# Altium footprint library EBF6ULL B1.PcbLib: 18 footprints (part 1 of 2)
Each footprint in its own frame and in the unit in brackets; x right, y up, seen from the top. Pads: shape width x height; smd on the part's side, far side on the other; paste and mask are expansions set on the pad; w line width, h text height; cw(c..) or ccw(c..) is an arc to the next point about the centre after c.
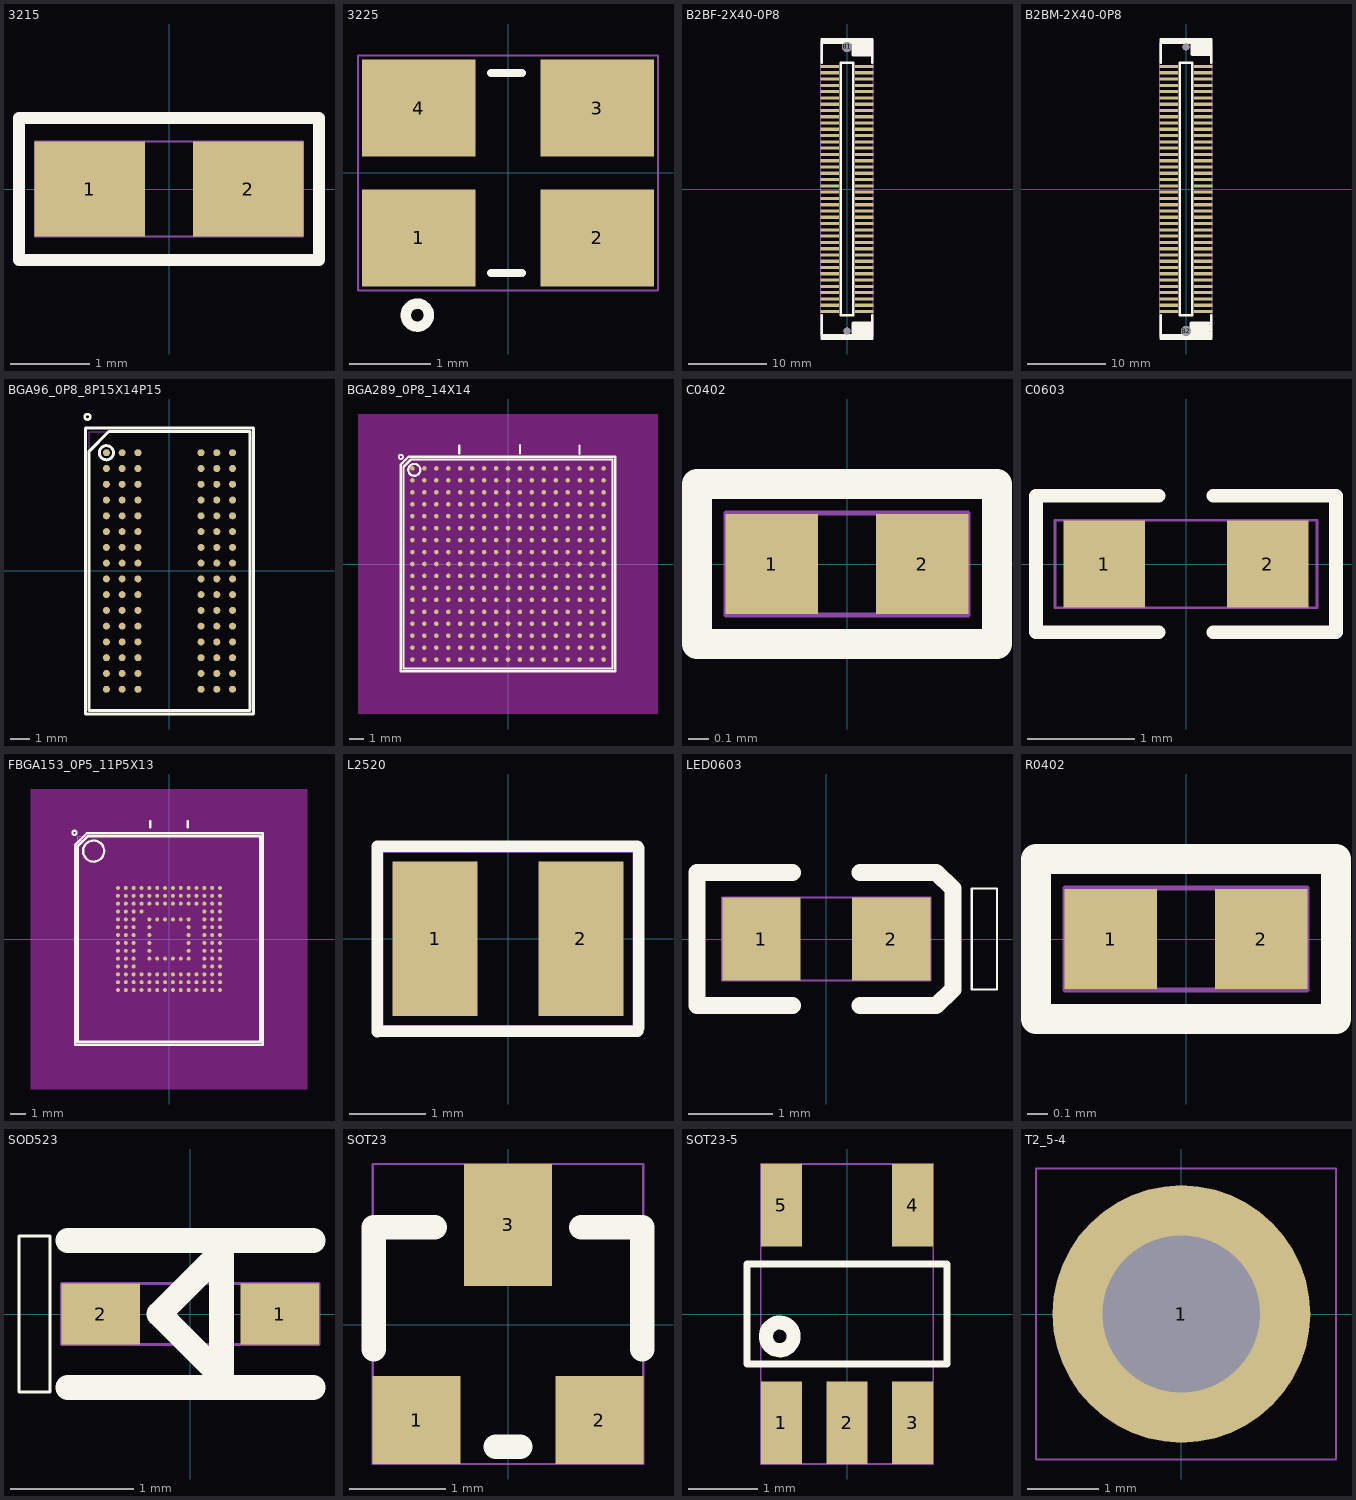
[diagram p0: the footprints below, top view; thin cyan lines are the x and y axes]

## 3215 [mil]
pads (2):
  rect 55.1x47.2 smd mask+2: 1(-39.4,0) 2(39.4,0)
Top Overlay:
  lines w5.9: -74.8,-35.4 -74.8,35.4 74.8,35.4 74.8,-35.4 -74.8,-35.4
Top Assembly:
  text "Y2" at -38.97,-25.04 h50
Mechanical 20:
  lines w1: -66.9,-23.6 -66.9,23.6 66.9,23.6 66.9,-23.6 -66.9,-23.6

## 3225 [mil]
pads (4):
  rect 55.1x47.2 smd mask+2: 1(-43.3,-31.5) 2(43.3,-31.5) 3(43.3,31.5) 4(-43.3,31.5)
Top Overlay:
  circle w5: c-44,-69 r5.6
  lines w3.9: -8.3,-48.5 6.7,-48.5 ; -8.3,48.5 6.7,48.5
Top Assembly:
  text "Y1" at -28.26,-25.04 h50
Mechanical 20:
  lines w1: -72.8,-57.1 72.8,-57.1 72.8,57.1 -72.8,57.1 -72.8,-57.1

## B2BF-2X40-0P8 [mil]
pads (82):
  rect 90.6x15.8 smd mask+1.95: 1(-86.6,614.2) 2(86.6,614.2) 3(-86.6,582.7) 4(86.6,582.7) 5(-86.6,551.2) 6(86.6,551.2) 7(-86.6,519.7) 8(86.6,519.7) 9(-86.6,488.2) 10(86.6,488.2) 11(-86.6,456.7) 12(86.6,456.7) 13(-86.6,425.2) 14(86.6,425.2) 15(-86.6,393.7) 16(86.6,393.7) 17(-86.6,362.2) 18(86.6,362.2) 19(-86.6,330.7) 20(86.6,330.7) 21(-86.6,299.2) 22(86.6,299.2) 23(-86.6,267.7) 24(86.6,267.7) 25(-86.6,236.2) 26(86.6,236.2) 27(-86.6,204.7) 28(86.6,204.7) 29(-86.6,173.2) 30(86.6,173.2) 31(-86.6,141.7) 32(86.6,141.7) 33(-86.6,110.2) 34(86.6,110.2) 35(-86.6,78.7) 36(86.6,78.7) 37(-86.6,47.2) 38(86.6,47.2) 39(-86.6,15.8) 40(86.6,15.8) 41(-86.6,-15.8) 42(86.6,-15.8) 43(-86.6,-47.2) 44(86.6,-47.2) 45(-86.6,-78.7) 46(86.6,-78.7) 47(-86.6,-110.2) 48(86.6,-110.2) 49(-86.6,-141.7) 50(86.6,-141.7) 51(-86.6,-173.2) 52(86.6,-173.2) 53(-86.6,-204.7) 54(86.6,-204.7) 55(-86.6,-236.2) 56(86.6,-236.2) 57(-86.6,-267.7) 58(86.6,-267.7) 59(-86.6,-299.2) 60(86.6,-299.2) 61(-86.6,-330.7) 62(86.6,-330.7) 63(-86.6,-362.2) 64(86.6,-362.2) 65(-86.6,-393.7) 66(86.6,-393.7) 67(-86.6,-425.2) 68(86.6,-425.2) 69(-86.6,-456.7) 70(86.6,-456.7) 71(-86.6,-488.2) 72(86.6,-488.2) 73(-86.6,-519.7) 74(86.6,-519.7) 75(-86.6,-551.2) 76(86.6,-551.2) 77(-86.6,-582.7) 78(86.6,-582.7) 79(-86.6,-614.2) 80(86.6,-614.2)
  round 51.2 hole 51.2 unplated mask+1.95: 81(0,712.6)
  round 35.4 hole 35.4 unplated mask+2.5: 82(0,-712.6)
Top Overlay:
  lines w12: -126,-633.9 -126,-752 126,-752 126,-633.9 ; -126,633.9 -126,752 126,752 126,633.9 ; -31.5,-633.9 31.5,-633.9 31.5,633.9 -31.5,633.9 -31.5,-633.9
  lines w19.7: -118.1,-736.2 118.1,-736.2 ; -118.1,736.2 118.1,736.2 ; 31.9,-720.5 118.5,-720.5 ; 31.9,-704.7 118.5,-704.7 ; 31.9,-689 118.5,-689 ; 31.9,-673.2 118.5,-673.2 ; 31.9,673.2 118.5,673.2 ; 31.9,689 118.5,689 ; 31.9,704.7 118.5,704.7 ; 31.9,720.5 118.5,720.5 ; 33.5,-720.5 33.5,-673.2 ; 33.5,673.2 33.5,720.5
Top Assembly:
  text "CN2" at -65.16,-25.04 h50
Mechanical 20:
  lines w1: -131.9,-730.3 -131.9,738.2 131.9,738.2 131.9,-730.3 -131.9,-730.3

## B2BM-2X40-0P8 [mil]
pads (82):
  rect 90.6x15.8 smd mask+1.95: 1(86.6,614.2) 2(-86.6,614.2) 3(86.6,582.7) 4(-86.6,582.7) 5(86.6,551.2) 6(-86.6,551.2) 7(86.6,519.7) 8(-86.6,519.7) 9(86.6,488.2) 10(-86.6,488.2) 11(86.6,456.7) 12(-86.6,456.7) 13(86.6,425.2) 14(-86.6,425.2) 15(86.6,393.7) 16(-86.6,393.7) 17(86.6,362.2) 18(-86.6,362.2) 19(86.6,330.7) 20(-86.6,330.7) 21(86.6,299.2) 22(-86.6,299.2) 23(86.6,267.7) 24(-86.6,267.7) 25(86.6,236.2) 26(-86.6,236.2) 27(86.6,204.7) 28(-86.6,204.7) 29(86.6,173.2) 30(-86.6,173.2) 31(86.6,141.7) 32(-86.6,141.7) 33(86.6,110.2) 34(-86.6,110.2) 35(86.6,78.7) 36(-86.6,78.7) 37(86.6,47.2) 38(-86.6,47.2) 39(86.6,15.8) 40(-86.6,15.8) 41(86.6,-15.8) 42(-86.6,-15.8) 43(86.6,-47.2) 44(-86.6,-47.2) 45(86.6,-78.7) 46(-86.6,-78.7) 47(86.6,-110.2) 48(-86.6,-110.2) 49(86.6,-141.7) 50(-86.6,-141.7) 51(86.6,-173.2) 52(-86.6,-173.2) 53(86.6,-204.7) 54(-86.6,-204.7) 55(86.6,-236.2) 56(-86.6,-236.2) 57(86.6,-267.7) 58(-86.6,-267.7) 59(86.6,-299.2) 60(-86.6,-299.2) 61(86.6,-330.7) 62(-86.6,-330.7) 63(86.6,-362.2) 64(-86.6,-362.2) 65(86.6,-393.7) 66(-86.6,-393.7) 67(86.6,-425.2) 68(-86.6,-425.2) 69(86.6,-456.7) 70(-86.6,-456.7) 71(86.6,-488.2) 72(-86.6,-488.2) 73(86.6,-519.7) 74(-86.6,-519.7) 75(86.6,-551.2) 76(-86.6,-551.2) 77(86.6,-582.7) 78(-86.6,-582.7) 79(86.6,-614.2) 80(-86.6,-614.2)
  round 35.4 hole 35.4 unplated mask+2.5: 81(0,712.6)
  round 51.2 hole 51.2 unplated mask+1.95: 82(0,-712.6)
Top Overlay:
  lines w12: -126,-633.9 -126,-752 126,-752 126,-633.9 ; -126,633.9 -126,752 126,752 126,633.9 ; -31.5,-633.9 31.5,-633.9 31.5,633.9 -31.5,633.9 -31.5,-633.9
  lines w19.7: -118.1,-736.2 118.1,-736.2 ; -118.1,736.2 118.1,736.2 ; 27.6,-704.7 114.2,-704.7 ; 27.6,-689 114.2,-689 ; 31.5,692.9 118.1,692.9 ; 31.5,708.7 118.1,708.7 ; 114.2,-720.5 27.6,-720.5 27.6,-673.2 114.2,-673.2 ; 118.1,677.2 31.5,677.2 31.5,724.4 118.1,724.4
Top Assembly:
  text "CN1" at -54.44,-25.04 h50
Mechanical 20:
  lines w1: -131.9,-738.2 131.9,-738.2 131.9,730.3 -131.9,730.3 -131.9,-738.2

## BGA96_0P8_8P15X14P15 [mil]
pads (96):
  round 14 smd mask+2: A1(-126,236.2) A2(-94.5,236.2) A3(-63,236.2) A7(63,236.2) A8(94.5,236.2) A9(126,236.2) B1(-126,204.7) B2(-94.5,204.7) B3(-63,204.7) B7(63,204.7) B8(94.5,204.7) B9(126,204.7) C1(-126,173.2) C2(-94.5,173.2) C3(-63,173.2) C7(63,173.2) C8(94.5,173.2) C9(126,173.2) D1(-126,141.7) D2(-94.5,141.7) D3(-63,141.7) D7(63,141.7) D8(94.5,141.7) D9(126,141.7) E1(-126,110.2) E2(-94.5,110.2) E3(-63,110.2) E7(63,110.2) E8(94.5,110.2) E9(126,110.2) F1(-126,78.7) F2(-94.5,78.7) F3(-63,78.7) F7(63,78.7) F8(94.5,78.7) F9(126,78.7) G1(-126,47.2) G2(-94.5,47.2) G3(-63,47.2) G7(63,47.2) G8(94.5,47.2) G9(126,47.2) H1(-126,15.7) H2(-94.5,15.7) H3(-63,15.7) H7(63,15.7) H8(94.5,15.7) H9(126,15.7) J1(-126,-15.7) J2(-94.5,-15.7) J3(-63,-15.7) J7(63,-15.7) J8(94.5,-15.7) J9(126,-15.7) K1(-126,-47.2) K2(-94.5,-47.2) K3(-63,-47.2) K7(63,-47.2) K8(94.5,-47.2) K9(126,-47.2) L1(-126,-78.7) L2(-94.5,-78.7) L3(-63,-78.7) L7(63,-78.7) L8(94.5,-78.7) L9(126,-78.7) M1(-126,-110.2) M2(-94.5,-110.2) M3(-63,-110.2) M7(63,-110.2) M8(94.5,-110.2) M9(126,-110.2) N1(-126,-141.7) N2(-94.5,-141.7) N3(-63,-141.7) N7(63,-141.7) N8(94.5,-141.7) N9(126,-141.7) P1(-126,-173.2) P2(-94.5,-173.2) P3(-63,-173.2) P7(63,-173.2) P8(94.5,-173.2) P9(126,-173.2) R1(-126,-204.7) R2(-94.5,-204.7) R3(-63,-204.7) R7(63,-204.7) R8(94.5,-204.7) R9(126,-204.7) T1(-126,-236.2) T2(-94.5,-236.2) T3(-63,-236.2) T7(63,-236.2) T8(94.5,-236.2) T9(126,-236.2)
Top Overlay:
  circle w5: c-163.68,307.97 r5.58
  circle w6: c-125.98,236.22 r14.14
  lines w6: -167.4,-285.6 -167.4,246.2 -167.4,285.5 -128.1,285.5 167.4,285.5 167.4,-285.5 -167.4,-285.5 ; -160.4,-278.5 160.4,-278.5 160.4,278.5 -121.1,278.5 -160.4,239.2 -160.4,-278.5
Top Assembly:
  text "U3" at -40.28,-25.04 h50
Mechanical 20:
  lines w1: -160.4,-278.5 160.4,-278.5 160.4,278.5 -160.4,278.5 -160.4,-278.5

## BGA289_0P8_14X14 [mil]
pads (289):
  round 12 smd mask+2: A1(-252,252) A2(-220.5,252) A3(-189,252) A4(-157.5,252) A5(-126,252) A6(-94.5,252) A7(-63,252) A8(-31.5,252) A9(0,252) A10(31.5,252) A11(63,252) A12(94.5,252) A13(126,252) A14(157.5,252) A15(189,252) A16(220.5,252) A17(252,252) B1(-252,220.5) B2(-220.5,220.5) B3(-189,220.5) B4(-157.5,220.5) B5(-126,220.5) B6(-94.5,220.5) B7(-63,220.5) B8(-31.5,220.5) B9(0,220.5) B10(31.5,220.5) B11(63,220.5) B12(94.5,220.5) B13(126,220.5) B14(157.5,220.5) B15(189,220.5) B16(220.5,220.5) B17(252,220.5) C1(-252,189) C2(-220.5,189) C3(-189,189) C4(-157.5,189) C5(-126,189) C6(-94.5,189) C7(-63,189) C8(-31.5,189) C9(0,189) C10(31.5,189) C11(63,189) C12(94.5,189) C13(126,189) C14(157.5,189) C15(189,189) C16(220.5,189) C17(252,189) D1(-252,157.5) D2(-220.5,157.5) D3(-189,157.5) D4(-157.5,157.5) D5(-126,157.5) D6(-94.5,157.5) D7(-63,157.5) D8(-31.5,157.5) D9(0,157.5) D10(31.5,157.5) D11(63,157.5) D12(94.5,157.5) D13(126,157.5) D14(157.5,157.5) D15(189,157.5) D16(220.5,157.5) D17(252,157.5) E1(-252,126) E2(-220.5,126) E3(-189,126) E4(-157.5,126) E5(-126,126) E6(-94.5,126) E7(-63,126) E8(-31.5,126) E9(0,126) E10(31.5,126) E11(63,126) E12(94.5,126) E13(126,126) E14(157.5,126) E15(189,126) E16(220.5,126) E17(252,126) F1(-252,94.5) F2(-220.5,94.5) F3(-189,94.5) F4(-157.5,94.5) F5(-126,94.5) F6(-94.5,94.5) F7(-63,94.5) F8(-31.5,94.5) F9(0,94.5) F10(31.5,94.5) F11(63,94.5) F12(94.5,94.5) F13(126,94.5) F14(157.5,94.5) F15(189,94.5) F16(220.5,94.5) F17(252,94.5) G1(-252,63) G2(-220.5,63) G3(-189,63) G4(-157.5,63) G5(-126,63) G6(-94.5,63) G7(-63,63) G8(-31.5,63) G9(0,63) G10(31.5,63) G11(63,63) G12(94.5,63) G13(126,63) G14(157.5,63) G15(189,63) G16(220.5,63) G17(252,63) H1(-252,31.5) H2(-220.5,31.5) H3(-189,31.5) H4(-157.5,31.5) H5(-126,31.5) H6(-94.5,31.5) H7(-63,31.5) H8(-31.5,31.5) H9(0,31.5) H10(31.5,31.5) H11(63,31.5) H12(94.5,31.5) H13(126,31.5) H14(157.5,31.5) H15(189,31.5) H16(220.5,31.5) H17(252,31.5) J1(-252,0) J2(-220.5,0) J3(-189,0) J4(-157.5,0) J5(-126,0) J6(-94.5,0) J7(-63,0) J8(-31.5,0) J9(0,0) J10(31.5,0) J11(63,0) J12(94.5,0) J13(126,0) J14(157.5,0) J15(189,0) J16(220.5,0) J17(252,0) K1(-252,-31.5) K2(-220.5,-31.5) K3(-189,-31.5) K4(-157.5,-31.5) K5(-126,-31.5) K6(-94.5,-31.5) K7(-63,-31.5) K8(-31.5,-31.5) K9(0,-31.5) K10(31.5,-31.5) K11(63,-31.5) K12(94.5,-31.5) K13(126,-31.5) K14(157.5,-31.5) K15(189,-31.5) K16(220.5,-31.5) K17(252,-31.5) L1(-252,-63) L2(-220.5,-63) L3(-189,-63) L4(-157.5,-63) L5(-126,-63) L6(-94.5,-63) L7(-63,-63) L8(-31.5,-63) L9(0,-63) L10(31.5,-63) L11(63,-63) L12(94.5,-63) L13(126,-63) L14(157.5,-63) L15(189,-63) L16(220.5,-63) L17(252,-63) M1(-252,-94.5) M2(-220.5,-94.5) M3(-189,-94.5) M4(-157.5,-94.5) M5(-126,-94.5) M6(-94.5,-94.5) M7(-63,-94.5) M8(-31.5,-94.5) M9(0,-94.5) M10(31.5,-94.5) M11(63,-94.5) M12(94.5,-94.5) M13(126,-94.5) M14(157.5,-94.5) M15(189,-94.5) M16(220.5,-94.5) M17(252,-94.5) N1(-252,-126) N2(-220.5,-126) N3(-189,-126) N4(-157.5,-126) N5(-126,-126) N6(-94.5,-126) N7(-63,-126) N8(-31.5,-126) N9(0,-126) N10(31.5,-126) N11(63,-126) N12(94.5,-126) N13(126,-126) N14(157.5,-126) N15(189,-126) N16(220.5,-126) N17(252,-126) P1(-252,-157.5) P2(-220.5,-157.5) P3(-189,-157.5) P4(-157.5,-157.5) P5(-126,-157.5) P6(-94.5,-157.5) P7(-63,-157.5) P8(-31.5,-157.5) P9(0,-157.5) P10(31.5,-157.5) P11(63,-157.5) P12(94.5,-157.5) P13(126,-157.5) P14(157.5,-157.5) P15(189,-157.5) P16(220.5,-157.5) P17(252,-157.5) R1(-252,-189) R2(-220.5,-189) R3(-189,-189) R4(-157.5,-189) R5(-126,-189) R6(-94.5,-189) R7(-63,-189) R8(-31.5,-189) R9(0,-189) R10(31.5,-189) R11(63,-189) R12(94.5,-189) R13(126,-189) R14(157.5,-189) R15(189,-189) R16(220.5,-189) R17(252,-189) T1(-252,-220.5) T2(-220.5,-220.5) T3(-189,-220.5) T4(-157.5,-220.5) T5(-126,-220.5) T6(-94.5,-220.5) T7(-63,-220.5) T8(-31.5,-220.5) T9(0,-220.5) T10(31.5,-220.5) T11(63,-220.5) T12(94.5,-220.5) T13(126,-220.5) T14(157.5,-220.5) T15(189,-220.5) T16(220.5,-220.5) T17(252,-220.5) U1(-252,-252) U2(-220.5,-252) U3(-189,-252) U4(-157.5,-252) U5(-126,-252) U6(-94.5,-252) U7(-63,-252) U8(-31.5,-252) U9(0,-252) U10(31.5,-252) U11(63,-252) U12(94.5,-252) U13(126,-252) U14(157.5,-252) U15(189,-252) U16(220.5,-252) U17(252,-252)
Top Layer keep-out:
  region: -395.6,-395.6 395.6,-395.6 395.6,395.6 -395.6,395.6
Top Overlay:
  circle w5: c-282.6,282.6 r5.6
  circle w6: c-247.09,248.26 r15.69
  lines w6: 31.7,292 31.7,313.4 ; 31.7,292.4 31.7,313.7 ; 188.4,290.6 188.4,311.9 ; 188.4,291.3 188.4,312.6 ; -282.6,-282.6 -282.6,262.6 -262.6,282.6 282.6,282.6 282.6,-282.6 -282.6,-282.6 ; -275.6,-275.6 -275.6,255.6 -255.6,275.6 275.6,275.6 275.6,-275.6 -275.6,-275.6 ; -128.3,291.3 -128.3,312.6 -128.3,291.3
Bottom Overlay:
  lines w6: -128.3,291.1 -128.3,312.4 ; 31.7,292.4 31.7,313.7 ; 188.4,290.6 188.4,311.9
Top Assembly:
  text "U2" at -40.28,-25.04 h50
Mechanical 20:
  lines w1: -275.6,-275.6 275.6,-275.6 275.6,275.6 -275.6,275.6 -275.6,-275.6

## C0402 [mil]
pads (2):
  rect 18.1x19.7 smd mask+1.95: 1(-14.8,0) 2(14.8,0)
Top Overlay:
  lines w5.9: -29.5,-15.7 -29.5,15.7 29.5,15.7 29.5,-15.7 -29.5,-15.7
Top Assembly:
  text "C99" at -62.66,-25.04 h50
Mechanical 20:
  lines w1: -23.8,-10 23.8,-10 23.8,10 -23.8,10 -23.8,-10

## C0603 [mil]
pads (2):
  rect 30x32 smd mask+2.5: 1(-30,0) 2(30,0)
Top Overlay:
  lines w5: -10,-25 -55,-25 -55,25 -10,25 ; 10,-25 55,-25 55,25 10,25
Top Assembly:
  text "C9" at -40.4,-25.04 h50
Mechanical 20:
  lines w1: -48,-16 -48,16 48,16 48,-16 -48,-16

## FBGA153_0P5_11P5X13 [mil]
pads (153):
  round 10 smd mask+1: A1(-127.9,127.9) A2(-108.3,127.9) A3(-88.6,127.9) A4(-68.9,127.9) A5(-49.2,127.9) A6(-29.5,127.9) A7(-9.8,127.9) A8(9.8,127.9) A9(29.5,127.9) A10(49.2,127.9) A11(68.9,127.9) A12(88.6,127.9) A13(108.3,127.9) A14(127.9,127.9) B1(-127.9,108.3) B2(-108.3,108.3) B3(-88.6,108.3) B4(-68.9,108.3) B5(-49.2,108.3) B6(-29.5,108.3) B7(-9.8,108.3) B8(9.8,108.3) B9(29.5,108.3) B10(49.2,108.3) B11(68.9,108.3) B12(88.6,108.3) B13(108.3,108.3) B14(127.9,108.3) C1(-127.9,88.6) C2(-108.3,88.6) C3(-88.6,88.6) C4(-68.9,88.6) C5(-49.2,88.6) C6(-29.5,88.6) C7(-9.8,88.6) C8(9.8,88.6) C9(29.5,88.6) C10(49.2,88.6) C11(68.9,88.6) C12(88.6,88.6) C13(108.3,88.6) C14(127.9,88.6) D1(-127.9,68.9) D2(-108.3,68.9) D3(-88.6,68.9) D4(-68.9,68.9) D12(88.6,68.9) D13(108.3,68.9) D14(127.9,68.9) E1(-127.9,49.2) E2(-108.3,49.2) E3(-88.6,49.2) E5(-49.2,49.2) E6(-29.5,49.2) E7(-9.8,49.2) E8(9.8,49.2) E9(29.5,49.2) E10(49.2,49.2) E12(88.6,49.2) E13(108.3,49.2) E14(127.9,49.2) F1(-127.9,29.5) F2(-108.3,29.5) F3(-88.6,29.5) F5(-49.2,29.5) F10(49.2,29.5) F12(88.6,29.5) F13(108.3,29.5) F14(127.9,29.5) G1(-127.9,9.8) G2(-108.3,9.8) G3(-88.6,9.8) G5(-49.2,9.8) G10(49.2,9.8) G12(88.6,9.8) G13(108.3,9.8) G14(127.9,9.8) H1(-127.9,-9.8) H2(-108.3,-9.8) H3(-88.6,-9.8) H5(-49.2,-9.8) H10(49.2,-9.8) H12(88.6,-9.8) H13(108.3,-9.8) H14(127.9,-9.8) J1(-127.9,-29.5) J2(-108.3,-29.5) J3(-88.6,-29.5) J5(-49.2,-29.5) J10(49.2,-29.5) J12(88.6,-29.5) J13(108.3,-29.5) J14(127.9,-29.5) K1(-127.9,-49.2) K2(-108.3,-49.2) K3(-88.6,-49.2) K5(-49.2,-49.2) K6(-29.5,-49.2) K7(-9.8,-49.2) K8(9.8,-49.2) K9(29.5,-49.2) K10(49.2,-49.2) K12(88.6,-49.2) K13(108.3,-49.2) K14(127.9,-49.2) L1(-127.9,-68.9) L2(-108.3,-68.9) L3(-88.6,-68.9) L12(88.6,-68.9) L13(108.3,-68.9) L14(127.9,-68.9) M1(-127.9,-88.6) M2(-108.3,-88.6) M3(-88.6,-88.6) M4(-68.9,-88.6) M5(-49.2,-88.6) M6(-29.5,-88.6) M7(-9.8,-88.6) M8(9.8,-88.6) M9(29.5,-88.6) M10(49.2,-88.6) M11(68.9,-88.6) M12(88.6,-88.6) M13(108.3,-88.6) M14(127.9,-88.6) N1(-127.9,-108.3) N2(-108.3,-108.3) N3(-88.6,-108.3) N4(-68.9,-108.3) N5(-49.2,-108.3) N6(-29.5,-108.3) N7(-9.8,-108.3) N8(9.8,-108.3) N9(29.5,-108.3) N10(49.2,-108.3) N11(68.9,-108.3) N12(88.6,-108.3) N13(108.3,-108.3) N14(127.9,-108.3) P1(-127.9,-127.9) P2(-108.3,-127.9) P3(-88.6,-127.9) P4(-68.9,-127.9) P5(-49.2,-127.9) P6(-29.5,-127.9) P7(-9.8,-127.9) P8(9.8,-127.9) P9(29.5,-127.9) P10(49.2,-127.9) P11(68.9,-127.9) P12(88.6,-127.9) P13(108.3,-127.9) P14(127.9,-127.9)
Top Layer keep-out:
  region: -346.5,-376 -346.5,376 346.5,376 346.5,-376
Top Overlay:
  circle w5: c-237,266 r5.52
  circle w6: c-188.98,220.47 r26.42
  lines w6: -235.4,-264.9 -235.4,235.8 -206.2,264.9 235.4,264.9 235.4,-264.9 -235.4,-264.9 ; -228.4,-257.9 -228.4,232.9 -203.4,257.9 228.4,257.9 228.4,-257.9 -228.4,-257.9 ; -47.2,279.5 -47.2,295.3 -47.2,279.5 ; 47.2,279.5 47.2,295.3 47.2,279.5
Bottom Overlay:
  lines w6: -47.2,279.5 -47.2,295.3 ; 47.2,279.5 47.2,295.3
Top Assembly:
  text "U4" at -41.47,-25.04 h50
Mechanical 20:
  lines w1: -228.4,-257.9 228.4,-257.9 228.4,257.9 -228.4,257.9 -228.4,-257.9

## L2520 [mil]
pads (2):
  rect 44x80 smd mask+2: 1(-37.7,0) 2(37.7,0)
Top Overlay:
  lines w6: -67.7,-48.1 -67.7,48 ; -67.7,47.9 67.1,47.9 ; -65.7,-47.9 67.1,-47.9 ; 67.7,-46.1 67.7,47
Top Assembly:
  text "L2" at -33.73,-25.04 h50
Mechanical 20:
  lines w1: -65,-45 -65,45 65,45 65,-45 -65,-45

## LED0603 [mil]
pads (2):
  rect 36.6x38.6 smd mask+1.95: 1(-30.3,0) 2(30.3,0)
Top Overlay:
  lines w1: 67.9,-23.6 67.9,23.6 79.7,23.6 79.7,-23.6 67.9,-23.6
  lines w7.9: -15.7,-31.1 -60.4,-31.1 -60.4,31.1 -15.7,31.1 ; 15.7,-31.1 51.2,-31.1 59.1,-23.5 59.1,23.5 51.2,31.1 15.7,31.1
Top Assembly:
  text "D7" at -38.97,-25.04 h50
Mechanical 20:
  lines w1: -48.6,-19.3 48.6,-19.3 48.6,19.3 -48.6,19.3 -48.6,-19.3

## R0402 [mil]
pads (2):
  rect 18.1x19.7 smd mask+1.95: 1(-14.8,0) 2(14.8,0)
Top Overlay:
  lines w5.9: -29.5,-15.7 -29.5,15.7 29.5,15.7 29.5,-15.7 -29.5,-15.7
Top Assembly:
  text "R9" at -37.78,-25.04 h50
Mechanical 20:
  lines w1: -23.8,-10 23.8,-10 23.8,10 -23.8,10 -23.8,-10

## SOD523 [mil]
pads (2):
  rect 25.2x19.7 smd mask+1.95: 1(28.7,0) 2(-28.7,0)
Top Overlay:
  lines w1: -55,-25 -45,-25 -45,25 -55,25 -55,-25
  lines w7.9: -39.4,-23.6 39.4,-23.6 ; -39.4,23.6 39.4,23.6
  lines w8: -10,0 10,-20 10,20 -10,0
Top Assembly:
  text "D5" at -38.97,-25.04 h50
Mechanical 20:
  lines w1: -41.3,-9.8 41.3,-9.8 41.3,9.8 -41.3,9.8 -41.3,-9.8

## SOT23 [mil]
pads (3):
  rect 36x36 smd mask+1.95: 1(-37.5,-39) 2(37.5,-39)
  rect 36x50 smd mask+1.95: 3(0,41)
Top Overlay:
  lines w10: -55,-10 -55,40 -30,40 ; -5,-50 5,-50 ; 30,40 55,40 55,-10
Top Assembly:
  text "U8" at -40.28,-25.04 h50
Mechanical 20:
  lines w1: -55.5,-57 55.5,-57 55.5,66 -55.5,66 -55.5,-57

## SOT23-5 [mil]
pads (5):
  rect 23.6x47.2 smd mask+2: 1(-37.4,-62) 2(0,-62) 3(37.4,-62) 4(37.4,62) 5(-37.4,62)
Top Overlay:
  circle w8: c-38.4,-12.79 r7.9
  lines w4: -57.1,-28.5 57.1,-28.5 57.1,18.7 57.1,28.5 -57.1,28.5 -57.1,18.7 -57.1,-28.5
Top Assembly:
  text "U9" at -39.09,-25.04 h50
Mechanical 20:
  lines w1: -49.2,-85.6 49.2,-85.6 49.2,85.6 -49.2,85.6 -49.2,-85.6

## T2_5-4 [mil]
pads (1):
  round 141.7 hole 86.6 mask+2: 1(0,0)
Top Assembly:
  text "H2" at -40.28,-25.04 h50
Mechanical 20:
  lines w1: -80,-80 -80,80 85,80 85,-80 -80,-80